# Altium schematic symbol library net_tie_0.Schlib: 1 symbol
Pins are listed as number, name and electrical type; pins without a type are passive.

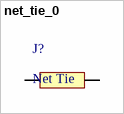
[diagram p0: symbol net_tie_0]

## net_tie_0
designator J?, comment Net Tie
pins: 1 NET1 (power), 2 NET2 (power)